# Altium schematic symbol library Capacitor GOST.SchLib: 6 symbols
Pins are listed as number, name and electrical type; pins without a type are passive.

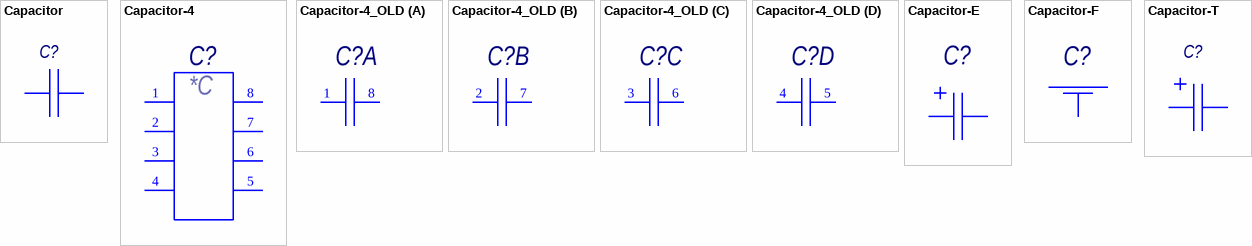
[diagram p0: symbols Capacitor to Capacitor-T]

## Capacitor
designator C?
Type: Конденсатор; Published: 18.05.2010; Publisher: Andrew Danich
pins: 1, 2

## Capacitor-4
designator C?
Type: Набор конденсаторов; Published: 25.08.2015; Publisher: Andrew Danich
pins: 1, 2, 3, 4, 5, 6, 7, 8
text: *C

## Capacitor-4_OLD
designator C?
Type: Набор конденсаторов; Published: 25.08.2015; Publisher: Andrew Danich
part A pins: 1, 8
part B pins: 2, 7
part C pins: 3, 6
part D pins: 4, 5

## Capacitor-E
designator C?
Type: Конденсатор; Published: 20.08.2010; Publisher: Andrew Danich
pins: 1, 2

## Capacitor-F
designator C?
Type: Конденсатор; Published: 06.07.2014; Publisher: Andrew Danich
pins: 1, 2, 3

## Capacitor-T
designator C?
Type: Конденсатор; Published: 23.04.2010; Publisher: Andrew Danich
pins: 1, 2